# EAGLE library part ULN2003A (library we-chip)
ULN2003 7-Bit Transistor Array (Low Side) with clamp diodes Vmax 50 V Imax 500 mA/ch
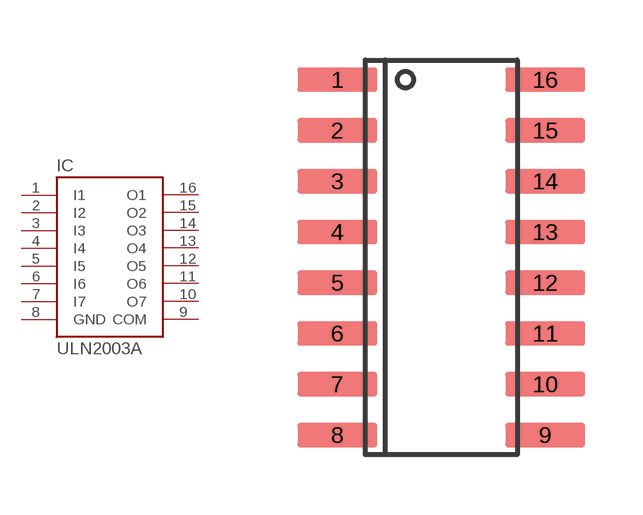
[diagram p29: symbol with the pads of SO16; footprint SO16]

Designator prefix IC

## ULN2003A-D  [SO16]
1  I1  in
2  I2  in
3  I3  in
4  I4  in
5  I5  in
6  I6  in
7  I7  in
8  GND  pwr
9  COM  pas
10  O7  oc
11  O6  oc
12  O5  oc
13  O4  oc
14  O3  oc
15  O2  oc
16  O1  oc

## Footprint SO16 (pad centres in mm)
smd 2 x 0.6: 1 -2.6,4.445; 2 -2.6,3.175; 3 -2.6,1.905; 4 -2.6,0.635; 5 -2.6,-0.635; 6 -2.6,-1.905; 7 -2.6,-3.175; 8 -2.6,-4.445; 9 2.6,-4.445; 10 2.6,-3.175; 11 2.6,-1.905; 12 2.6,-0.635; 13 2.6,0.635; 14 2.6,1.905; 15 2.6,3.175; 16 2.6,4.445